# Altium schematic symbol library SCH - MCU - RENESAS - RENESAS R7FS3A77XXXXXXNB 64QFN.SchLib: 1 symbol
Pins are listed as number, name and electrical type; pins without a type are passive.

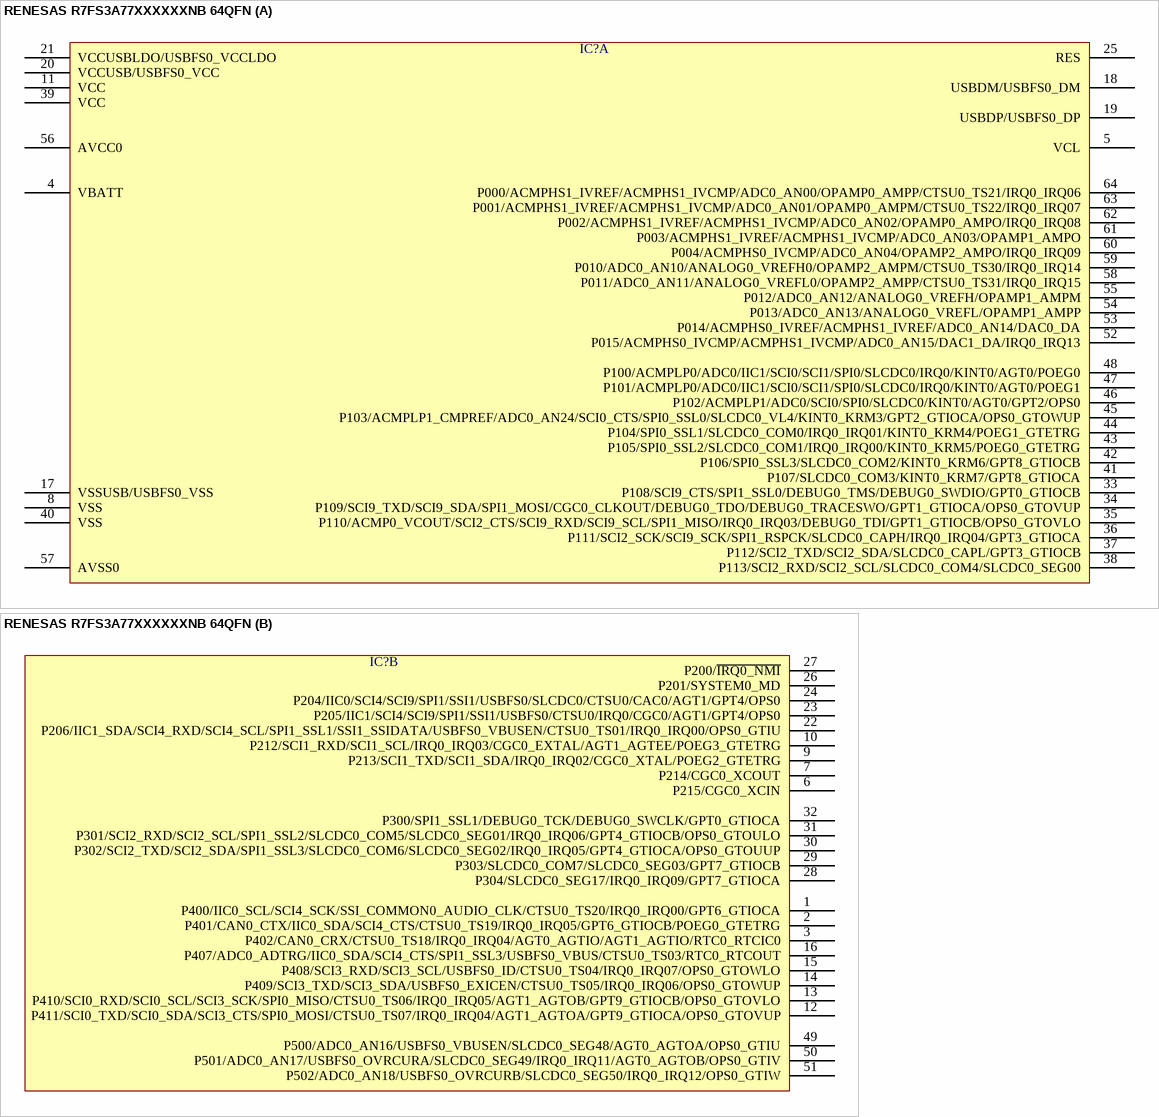
[diagram p0: symbol RENESAS R7FS3A77XXXXXXNB 64QFN]

## RENESAS R7FS3A77XXXXXXNB 64QFN
designator IC?  (value not drawn)
part A pins: 4 VBATT, 5 VCL, 8 VSS, 11 VCC, 17 VSSUSB/USBFS0_VSS, 18 USBDM/USBFS0_DM, 19 USBDP/USBFS0_DP, 20 VCCUSB/USBFS0_VCC, 21 VCCUSBLDO/USBFS0_VCCLDO, 25 RES, 33 P108/SCI9_CTS/SPI1_SSL0/DEBUG0_TMS/DEBUG0_SWDIO/GPT0_GTIOCB, 34 P109/SCI9_TXD/SCI9_SDA/SPI1_MOSI/CGC0_CLKOUT/DEBUG0_TDO/DEBUG0_TRACESWO/GPT1_GTIOCA/OPS0_GTOVUP, 35 P110/ACMP0_VCOUT/SCI2_CTS/SCI9_RXD/SCI9_SCL/SPI1_MISO/IRQ0_IRQ03/DEBUG0_TDI/GPT1_GTIOCB/OPS0_GTOVLO, 36 P111/SCI2_SCK/SCI9_SCK/SPI1_RSPCK/SLCDC0_CAPH/IRQ0_IRQ04/GPT3_GTIOCA, 37 P112/SCI2_TXD/SCI2_SDA/SLCDC0_CAPL/GPT3_GTIOCB, 38 P113/SCI2_RXD/SCI2_SCL/SLCDC0_COM4/SLCDC0_SEG00, 39 VCC, 40 VSS, 41 P107/SLCDC0_COM3/KINT0_KRM7/GPT8_GTIOCA, 42 P106/SPI0_SSL3/SLCDC0_COM2/KINT0_KRM6/GPT8_GTIOCB, 43 P105/SPI0_SSL2/SLCDC0_COM1/IRQ0_IRQ00/KINT0_KRM5/POEG0_GTETRG, 44 P104/SPI0_SSL1/SLCDC0_COM0/IRQ0_IRQ01/KINT0_KRM4/POEG1_GTETRG, 45 P103/ACMPLP1_CMPREF/ADC0_AN24/SCI0_CTS/SPI0_SSL0/SLCDC0_VL4/KINT0_KRM3/GPT2_GTIOCA/OPS0_GTOWUP, 46 P102/ACMPLP1/ADC0/SCI0/SPI0/SLCDC0/KINT0/AGT0/GPT2/OPS0, 47 P101/ACMPLP0/ADC0/IIC1/SCI0/SCI1/SPI0/SLCDC0/IRQ0/KINT0/AGT0/POEG1, 48 P100/ACMPLP0/ADC0/IIC1/SCI0/SCI1/SPI0/SLCDC0/IRQ0/KINT0/AGT0/POEG0, 52 P015/ACMPHS0_IVCMP/ACMPHS1_IVCMP/ADC0_AN15/DAC1_DA/IRQ0_IRQ13, 53 P014/ACMPHS0_IVREF/ACMPHS1_IVREF/ADC0_AN14/DAC0_DA, 54 P013/ADC0_AN13/ANALOG0_VREFL/OPAMP1_AMPP, 55 P012/ADC0_AN12/ANALOG0_VREFH/OPAMP1_AMPM, 56 AVCC0, 57 AVSS0, 58 P011/ADC0_AN11/ANALOG0_VREFL0/OPAMP2_AMPP/CTSU0_TS31/IRQ0_IRQ15, 59 P010/ADC0_AN10/ANALOG0_VREFH0/OPAMP2_AMPM/CTSU0_TS30/IRQ0_IRQ14, 60 P004/ACMPHS0_IVCMP/ADC0_AN04/OPAMP2_AMPO/IRQ0_IRQ09, 61 P003/ACMPHS1_IVREF/ACMPHS1_IVCMP/ADC0_AN03/OPAMP1_AMPO, 62 P002/ACMPHS1_IVREF/ACMPHS1_IVCMP/ADC0_AN02/OPAMP0_AMPO/IRQ0_IRQ08, 63 P001/ACMPHS1_IVREF/ACMPHS1_IVCMP/ADC0_AN01/OPAMP0_AMPM/CTSU0_TS22/IRQ0_IRQ07, 64 P000/ACMPHS1_IVREF/ACMPHS1_IVCMP/ADC0_AN00/OPAMP0_AMPP/CTSU0_TS21/IRQ0_IRQ06
part B pins: 1 P400/IIC0_SCL/SCI4_SCK/SSI_COMMON0_AUDIO_CLK/CTSU0_TS20/IRQ0_IRQ00/GPT6_GTIOCA, 2 P401/CAN0_CTX/IIC0_SDA/SCI4_CTS/CTSU0_TS19/IRQ0_IRQ05/GPT6_GTIOCB/POEG0_GTETRG, 3 P402/CAN0_CRX/CTSU0_TS18/IRQ0_IRQ04/AGT0_AGTIO/AGT1_AGTIO/RTC0_RTCIC0, 6 P215/CGC0_XCIN, 7 P214/CGC0_XCOUT, 9 P213/SCI1_TXD/SCI1_SDA/IRQ0_IRQ02/CGC0_XTAL/POEG2_GTETRG, 10 P212/SCI1_RXD/SCI1_SCL/IRQ0_IRQ03/CGC0_EXTAL/AGT1_AGTEE/POEG3_GTETRG, 12 P411/SCI0_TXD/SCI0_SDA/SCI3_CTS/SPI0_MOSI/CTSU0_TS07/IRQ0_IRQ04/AGT1_AGTOA/GPT9_GTIOCA/OPS0_GTOVUP, 13 P410/SCI0_RXD/SCI0_SCL/SCI3_SCK/SPI0_MISO/CTSU0_TS06/IRQ0_IRQ05/AGT1_AGTOB/GPT9_GTIOCB/OPS0_GTOVLO, 14 P409/SCI3_TXD/SCI3_SDA/USBFS0_EXICEN/CTSU0_TS05/IRQ0_IRQ06/OPS0_GTOWUP, 15 P408/SCI3_RXD/SCI3_SCL/USBFS0_ID/CTSU0_TS04/IRQ0_IRQ07/OPS0_GTOWLO, 16 P407/ADC0_ADTRG/IIC0_SDA/SCI4_CTS/SPI1_SSL3/USBFS0_VBUS/CTSU0_TS03/RTC0_RTCOUT, 22 P206/IIC1_SDA/SCI4_RXD/SCI4_SCL/SPI1_SSL1/SSI1_SSIDATA/USBFS0_VBUSEN/CTSU0_TS01/IRQ0_IRQ00/OPS0_GTIU, 23 P205/IIC1/SCI4/SCI9/SPI1/SSI1/USBFS0/CTSU0/IRQ0/CGC0/AGT1/GPT4/OPS0, 24 P204/IIC0/SCI4/SCI9/SPI1/SSI1/USBFS0/SLCDC0/CTSU0/CAC0/AGT1/GPT4/OPS0, 26 P201/SYSTEM0_MD, 27 P200/~{IRQ0_NMI}, 28 P304/SLCDC0_SEG17/IRQ0_IRQ09/GPT7_GTIOCA, 29 P303/SLCDC0_COM7/SLCDC0_SEG03/GPT7_GTIOCB, 30 P302/SCI2_TXD/SCI2_SDA/SPI1_SSL3/SLCDC0_COM6/SLCDC0_SEG02/IRQ0_IRQ05/GPT4_GTIOCA/OPS0_GTOUUP, 31 P301/SCI2_RXD/SCI2_SCL/SPI1_SSL2/SLCDC0_COM5/SLCDC0_SEG01/IRQ0_IRQ06/GPT4_GTIOCB/OPS0_GTOULO, 32 P300/SPI1_SSL1/DEBUG0_TCK/DEBUG0_SWCLK/GPT0_GTIOCA, 49 P500/ADC0_AN16/USBFS0_VBUSEN/SLCDC0_SEG48/AGT0_AGTOA/OPS0_GTIU, 50 P501/ADC0_AN17/USBFS0_OVRCURA/SLCDC0_SEG49/IRQ0_IRQ11/AGT0_AGTOB/OPS0_GTIV, 51 P502/ADC0_AN18/USBFS0_OVRCURB/SLCDC0_SEG50/IRQ0_IRQ12/OPS0_GTIW